# Altium schematic symbol library My Library.SchLib: 51 symbols
Pins are listed as number, name and electrical type; pins without a type are passive.

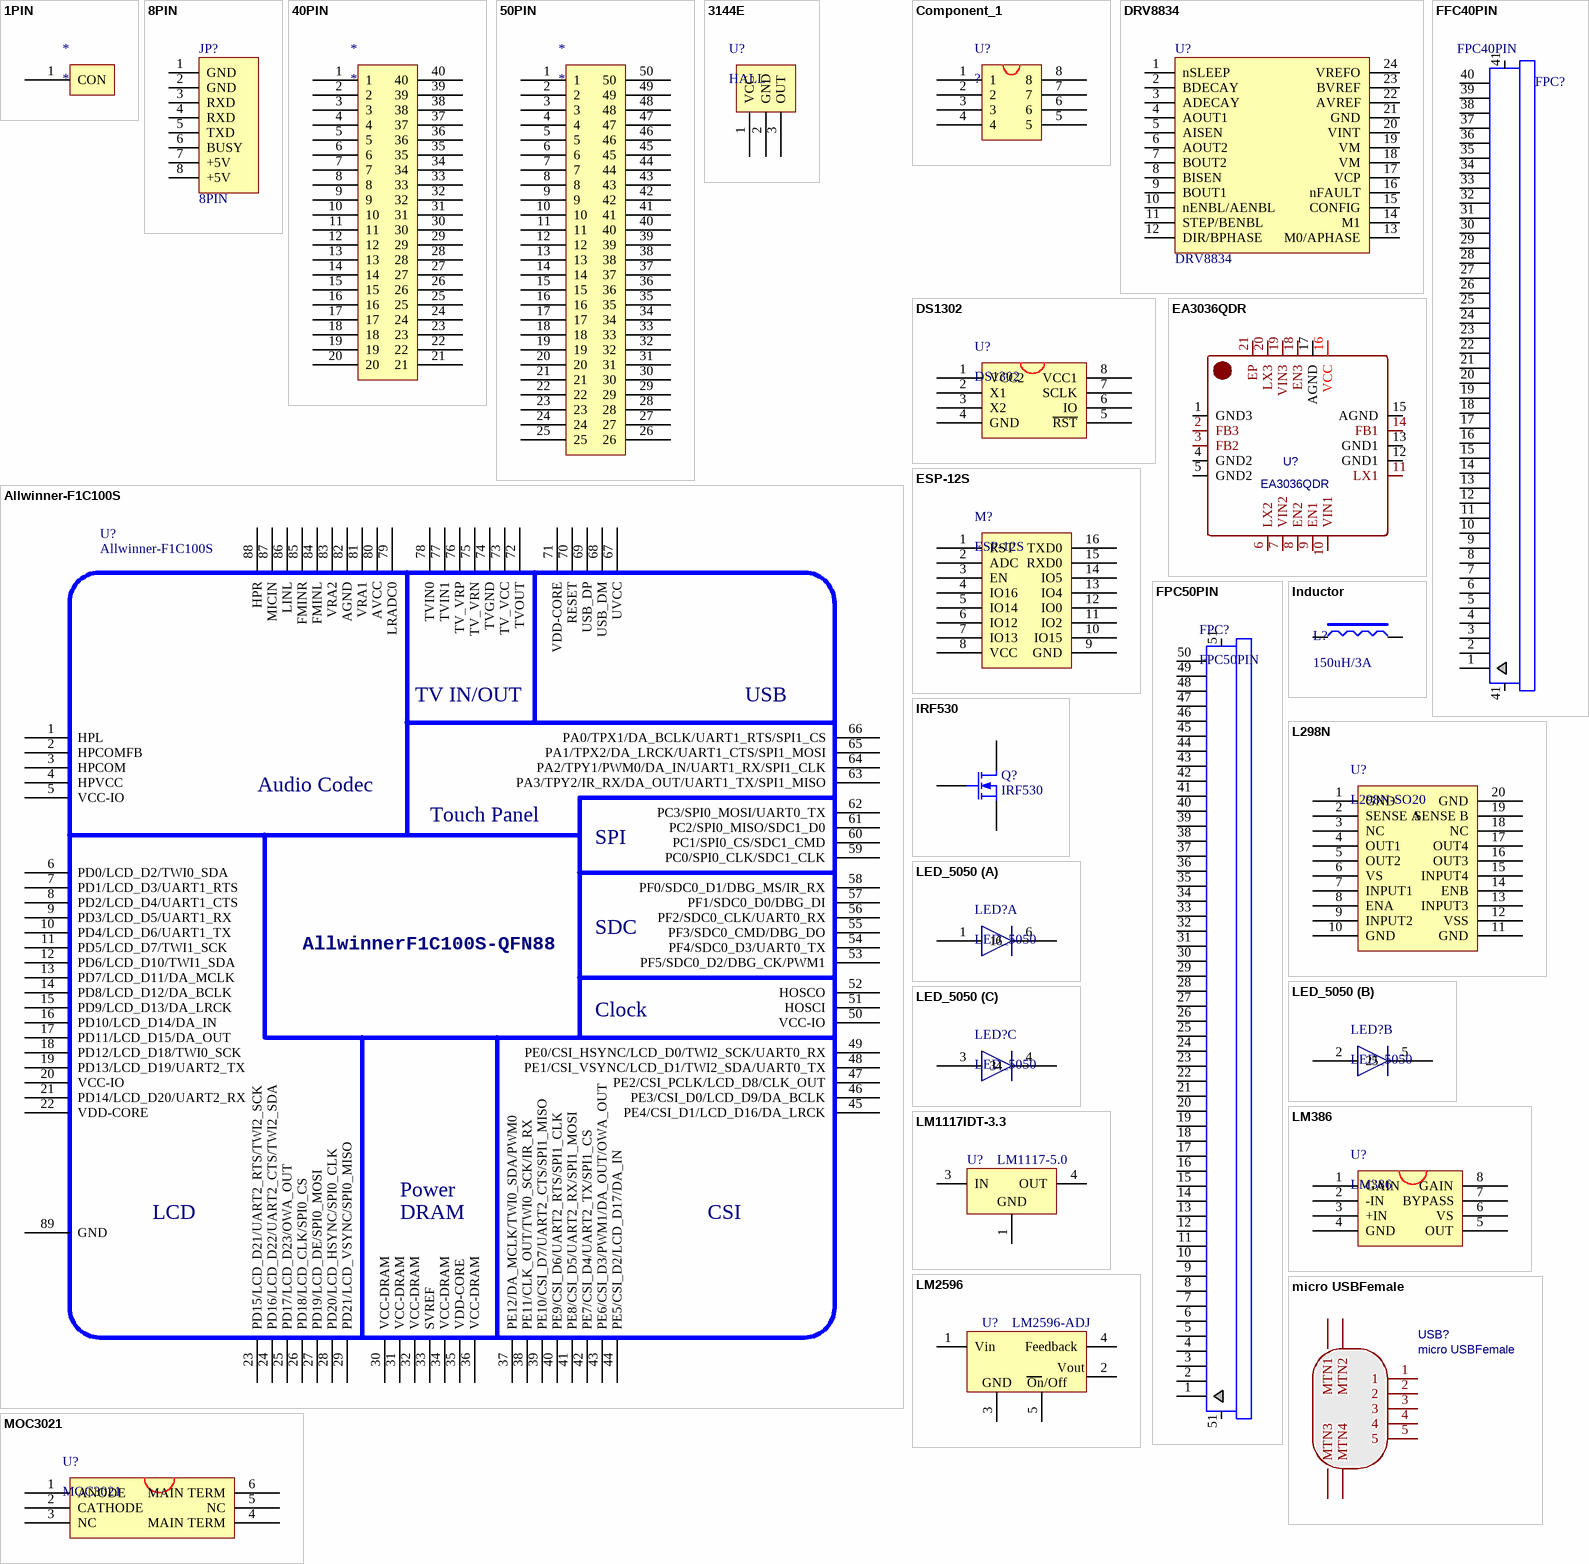
[diagram p0: symbols 1PIN to MOC3021]

## 1PIN
designator *
pins: 1 CON

## 8PIN
designator JP?
footprint LCD8
pins: 1 GND, 2 GND, 3 RXD, 4 RXD, 5 TXD, 6 BUSY, 7 +5V, 8 +5V

## 40PIN
designator *
pins: 1, 2, 3, 4, 5, 6, 7, 8, 9, 10, 11, 12, 13, 14, 15, 16, 17, 18, 19, 20, 21, 22, 23, 24, 25, 26, 27, 28, 29, 30, 31, 32, 33, 34, 35, 36, 37, 38, 39, 40

## 50PIN
designator *
pins: 1, 2, 3, 4, 5, 6, 7, 8, 9, 10, 11, 12, 13, 14, 15, 16, 17, 18, 19, 20, 21, 22, 23, 24, 25, 26, 27, 28, 29, 30, 31, 32, 33, 34, 35, 36, 37, 38, 39, 40, 41, 42, 43, 44, 45, 46, 47, 48, 49, 50

## 3144E
designator U?, comment HALL
footprint BCY-W3
pins: 1 VCC, 2 GND, 3 OUT

## Allwinner-F1C100S
designator U?
footprint QFN88
pins: 1 HPL, 2 HPCOMFB, 3 HPCOM, 4 HPVCC, 5 VCC-IO, 6 PD0/LCD_D2/TWI0_SDA, 7 PD1/LCD_D3/UART1_RTS, 8 PD2/LCD_D4/UART1_CTS, 9 PD3/LCD_D5/UART1_RX, 10 PD4/LCD_D6/UART1_TX, 11 PD5/LCD_D7/TWI1_SCK, 12 PD6/LCD_D10/TWI1_SDA, 13 PD7/LCD_D11/DA_MCLK, 14 PD8/LCD_D12/DA_BCLK, 15 PD9/LCD_D13/DA_LRCK, 16 PD10/LCD_D14/DA_IN, 17 PD11/LCD_D15/DA_OUT, 18 PD12/LCD_D18/TWI0_SCK, 19 PD13/LCD_D19/UART2_TX, 20 VCC-IO, 21 PD14/LCD_D20/UART2_RX, 22 VDD-CORE, 23 PD15/LCD_D21/UART2_RTS/TWI2_SCK, 24 PD16/LCD_D22/UART2_CTS/TWI2_SDA, 25 PD17/LCD_D23/OWA_OUT, 26 PD18/LCD_CLK/SPI0_CS, 27 PD19/LCD_DE/SPI0_MOSI, 28 PD20/LCD_HSYNC/SPI0_CLK, 29 PD21/LCD_VSYNC/SPI0_MISO, 30 VCC-DRAM, 31 VCC-DRAM, 32 VCC-DRAM, 33 SVREF, 34 VCC-DRAM, 35 VDD-CORE, 36 VCC-DRAM, 37 PE12/DA_MCLK/TWI0_SDA/PWM0, 38 PE11/CLK_OUT/TWI0_SCK/IR_RX, 39 PE10/CSI_D7/UART2_CTS/SPI1_MISO, 40 PE9/CSI_D6/UART2_RTS/SPI1_CLK, 41 PE8/CSI_D5/UART2_RX/SPI1_MOSI, 42 PE7/CSI_D4/UART2_TX/SPI1_CS, 43 PE6/CSI_D3/PWM1/DA_OUT/OWA_OUT, 44 PE5/CSI_D2/LCD_D17/DA_IN, 45 PE4/CSI_D1/LCD_D16/DA_LRCK, 46 PE3/CSI_D0/LCD_D9/DA_BCLK, 47 PE2/CSI_PCLK/LCD_D8/CLK_OUT, 48 PE1/CSI_VSYNC/LCD_D1/TWI2_SDA/UART0_TX, 49 PE0/CSI_HSYNC/LCD_D0/TWI2_SCK/UART0_RX, 50 VCC-IO, 51 HOSCI, 52 HOSCO, 53 PF5/SDC0_D2/DBG_CK/PWM1, 54 PF4/SDC0_D3/UART0_TX, 55 PF3/SDC0_CMD/DBG_DO, 56 PF2/SDC0_CLK/UART0_RX, 57 PF1/SDC0_D0/DBG_DI, 58 PF0/SDC0_D1/DBG_MS/IR_RX, 59 PC0/SPI0_CLK/SDC1_CLK, 60 PC1/SPI0_CS/SDC1_CMD, 61 PC2/SPI0_MISO/SDC1_D0, 62 PC3/SPI0_MOSI/UART0_TX, 63 PA3/TPY2/IR_RX/DA_OUT/UART1_TX/SPI1_MISO, 64 PA2/TPY1/PWM0/DA_IN/UART1_RX/SPI1_CLK, 65 PA1/TPX2/DA_LRCK/UART1_CTS/SPI1_MOSI, 66 PA0/TPX1/DA_BCLK/UART1_RTS/SPI1_CS, 67 UVCC, 68 USB_DM, 69 USB_DP, 70 RESET, 71 VDD-CORE, 72 TVOUT, 73 TV_VCC, 74 TVGND, 75 TV_VRN, 76 TV_VRP, 77 TVIN1, 78 TVIN0, 79 LRADC0, 80 AVCC, 81 VRA1, 82 AGND, 83 VRA2, 84 FMINL, 85 FMINR, 86 LINL, 87 MICIN, 88 HPR, 89 GND
text: TV IN/OUT; USB; Audio Codec; Touch Panel; SPI; SDC; AllwinnerF1C100S-QFN88; Clock; Power; LCD; DRAM; CSI

## Component_1
designator U?, comment ?
Unknow
footprint SOP-8
pins: 1, 2, 3, 4, 5, 6, 7, 8

## DRV8834
designator U?
footprint SOIC-24
pins: 1 nSLEEP, 2 BDECAY, 3 ADECAY, 4 AOUT1, 5 AISEN, 6 AOUT2, 7 BOUT2, 8 BISEN, 9 BOUT1, 10 nENBL/AENBL, 11 STEP/BENBL, 12 DIR/BPHASE, 13 M0/APHASE, 14 M1, 15 CONFIG, 16 nFAULT, 17 VCP, 18 VM, 19 VM, 20 VINT, 21 GND, 22 AVREF, 23 BVREF, 24 VREFO

## DS1302
designator U?
footprint SOP-8
pins: 1 VCC2, 2 X1, 3 X2, 4 GND, 5 ~{RST}, 6 IO, 7 SCLK, 8 VCC1

## EA3036QDR
designator U?
BOM_Manufacturer: Everanalog; spicePre: X; BOM_Manufacturer Part: EA3036QDR; BOM_Supplier: LCSC; BOM_Supplier Part: C111587
footprint QFN20P
pins: 1 GND3, 2 FB3, 3 FB2, 4 GND2, 5 GND2, 6 LX2, 7 VIN2, 8 EN2, 9 EN1, 10 VIN1, 11 LX1, 12 GND1, 13 GND1, 14 FB1, 15 AGND, 16 VCC, 17 AGND, 18 EN3, 19 VIN3, 20 LX3, 21 EP

## ESP-12S
designator M?
footprint ESP-12S
pins: 1 RST, 2 ADC, 3 EN, 4 IO16, 5 IO14, 6 IO12, 7 IO13, 8 VCC, 9 GND, 10 IO15, 11 IO2, 12 IO0, 13 IO4, 14 IO5, 15 RXD0, 16 TXD0

## FFC40PIN
designator FPC?, comment FPC40PIN
FFC
footprint FFC-0.5-2H40 (Connector; FH12 Series; 40 Position; 0.5mm Spaced Bottom Contact)
footprint FPC-40PIN
pins: 1, 2, 3, 4, 5, 6, 7, 8, 9, 10, 11, 12, 13, 14, 15, 16, 17, 18, 19, 20, 21, 22, 23, 24, 25, 26, 27, 28, 29, 30, 31, 32, 33, 34, 35, 36, 37, 38, 39, 40, 41, 41

## FPC50PIN
designator FPC?
FPC
footprint FPC-50PIN
pins: 1, 2, 3, 4, 5, 6, 7, 8, 9, 10, 11, 12, 13, 14, 15, 16, 17, 18, 19, 20, 21, 22, 23, 24, 25, 26, 27, 28, 29, 30, 31, 32, 33, 34, 35, 36, 37, 38, 39, 40, 41 31, 42 32, 43 33, 44 34, 45 35, 46 36, 47 37, 48 38, 49 39, 50 40, 51 41, 51 41

## Inductor
designator L?, comment 150uH/3A
Inductor; Code_IEC: 1005; Value: 10mH; Published: 8-Jun-2000; LatestRevisionDate: 29-May-2009; LatestRevisionNote: IPC-7351 Footprint Added.; PackageReference: 0402-A; Publisher: Altium Limited; PackageDescription: Chip Inductor; Code_JEITA: 0402
footprint LDIP-5MM
simulation model INDUCTOR (Inductor)
signal-integrity model Inductor
footprint SMD-12*12
pins: 1, 2

## IRF530
designator Q?
N-Channel MOSFET; Published: 8-Jun-2000; LatestRevisionDate: 17-Jul-2002; LatestRevisionNote: Re-released for DXP Platform.; PackageVersion: 1995/1996; PackageReference: E3; Publisher: Altium Limited
footprint TO-220-3-SC; pin to pad 1>2 2>1
simulation model NMOS (MOSFET-N)
pins: 1 D, 2 G, 3 S

## L298N
designator U?, comment L298N-SO20
footprint PowerSO20
pins: 1 GND, 2 SENSE A, 3 NC, 4 OUT1, 5 OUT2, 6 VS, 7 INPUT1, 8 ENA, 9 INPUT2, 10 GND, 11 GND, 12 VSS, 13 INPUT3, 14 ENB, 15 INPUT4, 16 OUT3, 17 OUT4, 18 NC, 19 SENSE B, 20 GND

## LED_5050
designator LED?
footprint LED_5050
part A pins: 1, 6
part B pins: 2, 5
part C pins: 3, 4

## LM386
designator U?
footprint SOP-8
pins: 1 GAIN, 2 -IN, 3 +IN, 4 GND, 5 OUT, 6 VS, 7 BYPASS, 8 GAIN

## LM1117IDT-3.3
designator U?, comment LM1117-5.0
800mA Low-Dropout Linear Regulator, 3-pin TO-252; PartNumber: LM1117IDT-3.3; Manufacturer: National Semiconductor; PackageTopMarking: NSUZXYTT*LM1117*IDT-3.3; PowerWise: N; CompType: LDO IC; Published: 4-Dec-2008; DatasheetVersion: Apr-2006; PackageVersion: revD, Feb-2009; PackageReference: TD03B; Publisher: Altium Limited; PackageDescription: TO252, Molded, Jedec, 6.8 x 6.10 x 2.30mm Body, 3 Lead, 2.28mm Pitch, Surface Mount; RoHS: N; PinCount: 3; Code_JEDEC: TO-252-AA; ComponentLink1Description: LM1117 Datasheet; ComponentLink1URL: http://www.national.com/ds/LM/LM1117.pdf; ComponentLink2Description: LM1117 Web Page; ComponentLink2URL: http://www.national.com/pf/LM/LM1117.html; ComponentLink3Description: TD03B Package Page; ComponentLink3URL: http://www.national.com/packaging/folders/td03b.html
footprint SOT-223
pins: 1 GND (power), 3 IN (power), 4 OUT (power)

## LM2596
designator U?, comment LM2596-ADJ
footprint TO-263-5
pins: 1 Vin, 2, 3, 4 Feedback, 5
text: Vout; GND; On/Off

## micro USBFemale
designator USB?
BOM_Manufacturer: ValuePro; BOM_Supplier: LCSC; BOM_Manufacturer Part: micro USBFemale; image: //image.lceda.cn/szlcsc/C10418.jpg; spicePre: U; BOM_Supplier Part: C10418
footprint USB_MICRO
pins: 0 MTN4, 0 MTN3, 0 MTN2, 0 MTN1, 1, 2, 3, 4, 5

## MOC3021
designator U?
footprint SOIC-6-2.54
pins: 1 ANODE, 2 CATHODE, 3 NC, 4 MAIN TERM, 5 NC, 6 MAIN TERM

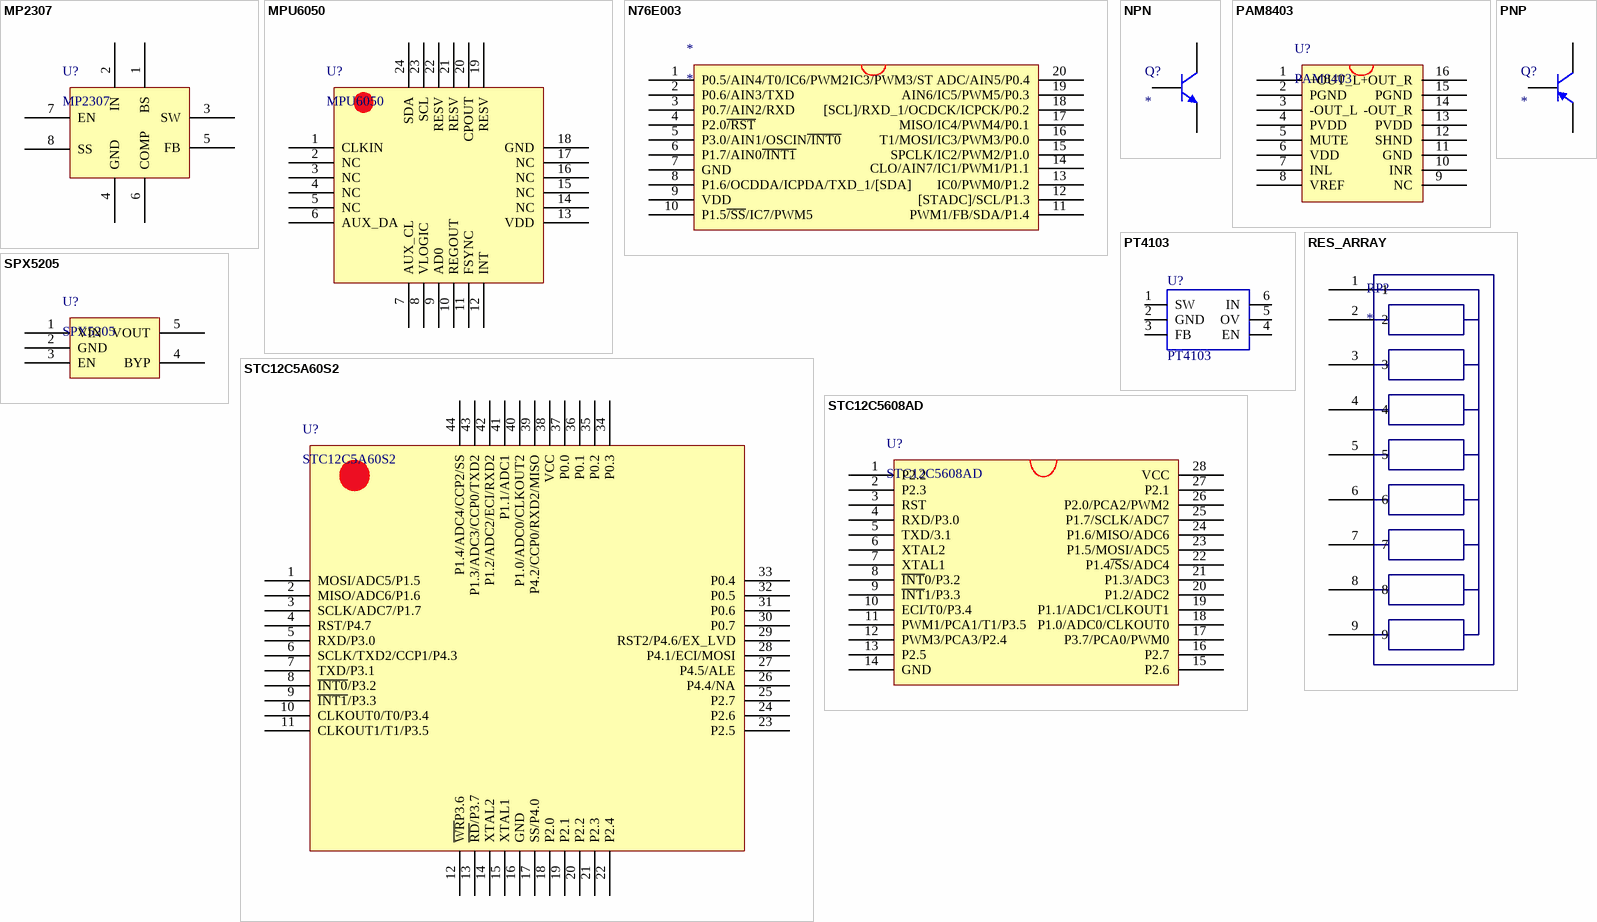
[diagram p1: symbols MP2307 to STC12C5608AD]

## MP2307
designator U?
footprint SOP-8
pins: 1 BS, 2 IN, 3 SW, 4 GND, 5 FB, 6 COMP, 7 EN, 8 SS

## MPU6050
designator U?
footprint QFN4*4*0.9_24PIN
pins: 1 CLKIN, 2 NC, 3 NC, 4 NC, 5 NC, 6 AUX_DA, 7 AUX_CL, 8 VLOGIC, 9 AD0, 10 REGOUT, 11 FSYNC, 12 INT, 13 VDD, 14 NC, 15 NC, 16 NC, 17 NC, 18 GND, 19 RESV, 20 CPOUT, 21 RESV, 22 RESV, 23 SCL, 24 SDA

## N76E003
designator *
footprint TSSOP-20
pins: 1 P0.5/AIN4/T0/IC6/PWM2, 2 P0.6/AIN3/TXD, 3 P0.7/AIN2/RXD, 4 P2.0~{/RST}, 5 P3.0/AIN1/OSCIN~{/INT0}, 6 P1.7/AIN0~{/INT1}, 7 GND, 8 P1.6/OCDDA/ICPDA/TXD_1/[SDA], 9 VDD, 10 P1.5~{/SS}/IC7/PWM5, 11 PWM1/FB/SDA/P1.4, 12 [STADC]/SCL/P1.3, 13 IC0/PWM0/P1.2, 14 CLO/AIN7/IC1/PWM1/P1.1, 15 SPCLK/IC2/PWM2/P1.0, 16 T1/MOSI/IC3/PWM3/P0.0, 17 MISO/IC4/PWM4/P0.1, 18 [SCL]/RXD_1/OCDCK/ICPCK/P0.2, 19 AIN6/IC5/PWM5/P0.3, 20 IC3/PWM3/ST ADC/AIN5/P0.4

## NPN
designator Q?
footprint SOT-23-3
footprint T0-220-3
pins: 1 C, 2 B, 3 E

## PAM8403
designator U?
footprint SOIC-16
pins: 1 +OUT_L, 2 PGND, 3 -OUT_L, 4 PVDD, 5 MUTE, 6 VDD, 7 INL, 8 VREF, 9 NC, 10 INR, 11 GND, 12 SHND, 13 PVDD, 14 -OUT_R, 15 PGND, 16 +OUT_R

## PNP
designator Q?
footprint SOT-23-3
pins: 1 C, 2 B, 3 E

## PT4103
designator U?
footprint SOT-23-6
pins: 1 SW, 2 GND, 3 FB, 4 EN, 5 OV, 6 IN

## RES_ARRAY
designator RP?
RES_ARRAY
pins: 1, 2, 3, 4, 5, 6, 7, 8, 9

## SPX5205
designator U?
VOLTAGE REGULATOR IC
pins: 1 VIN, 2 GND, 3 EN, 4 BYP, 5 VOUT

## STC12C5A60S2
designator U?
footprint LQFP-44
pins: 1 MOSI/ADC5/P1.5, 2 MISO/ADC6/P1.6, 3 SCLK/ADC7/P1.7, 4 RST/P4.7, 5 RXD/P3.0, 6 SCLK/TXD2/CCP1/P4.3, 7 TXD/P3.1, 8 ~{INT0}/P3.2, 9 ~{INT1}/P3.3, 10 CLKOUT0/T0/P3.4, 11 CLKOUT1/T1/P3.5, 12 ~{WR}P3.6, 13 ~{RD}/P3.7, 14 XTAL2, 15 XTAL1, 16 GND, 17 SS/P4.0, 18 P2.0, 19 P2.1, 20 P2.2, 21 P2.3, 22 P2.4, 23 P2.5, 24 P2.6, 25 P2.7, 26 P4.4/NA, 27 P4.5/ALE, 28 P4.1/ECI/MOSI, 29 RST2/P4.6/EX_LVD, 30 P0.7, 31 P0.6, 32 P0.5, 33 P0.4, 34 P0.3, 35 P0.2, 36 P0.1, 37 P0.0, 38 VCC, 39 P4.2/CCP0/RXD2/MISO, 40 P1.0/ADC0/CLKOUT2, 41 P1.1/ADC1, 42 P1.2/ADC2/ECI/RXD2, 43 P1.3/ADC3/CCP0/TXD2, 44 P1.4/ADC4/CCP2/SS

## STC12C5608AD
designator U?
footprint SOIC-28
pins: 1 P2.2, 2 P2.3, 3 RST, 4 RXD/P3.0, 5 TXD/3.1, 6 XTAL2, 7 XTAL1, 8 ~{INT}0/P3.2, 9 ~{INT}1/P3.3, 10 ECI/T0/P3.4, 11 PWM1/PCA1/T1/P3.5, 12 PWM3/PCA3/P2.4, 13 P2.5, 14 GND, 15 P2.6, 16 P2.7, 17 P3.7/PCA0/PWM0, 18 P1.0/ADC0/CLKOUT0, 19 P1.1/ADC1/CLKOUT1, 20 P1.2/ADC2, 21 P1.3/ADC3, 22 P1.4~{/S}S/ADC4, 23 P1.5/MOSI/ADC5, 24 P1.6/MISO/ADC6, 25 P1.7/SCLK/ADC7, 26 P2.0/PCA2/PWM2, 27 P2.1, 28 VCC

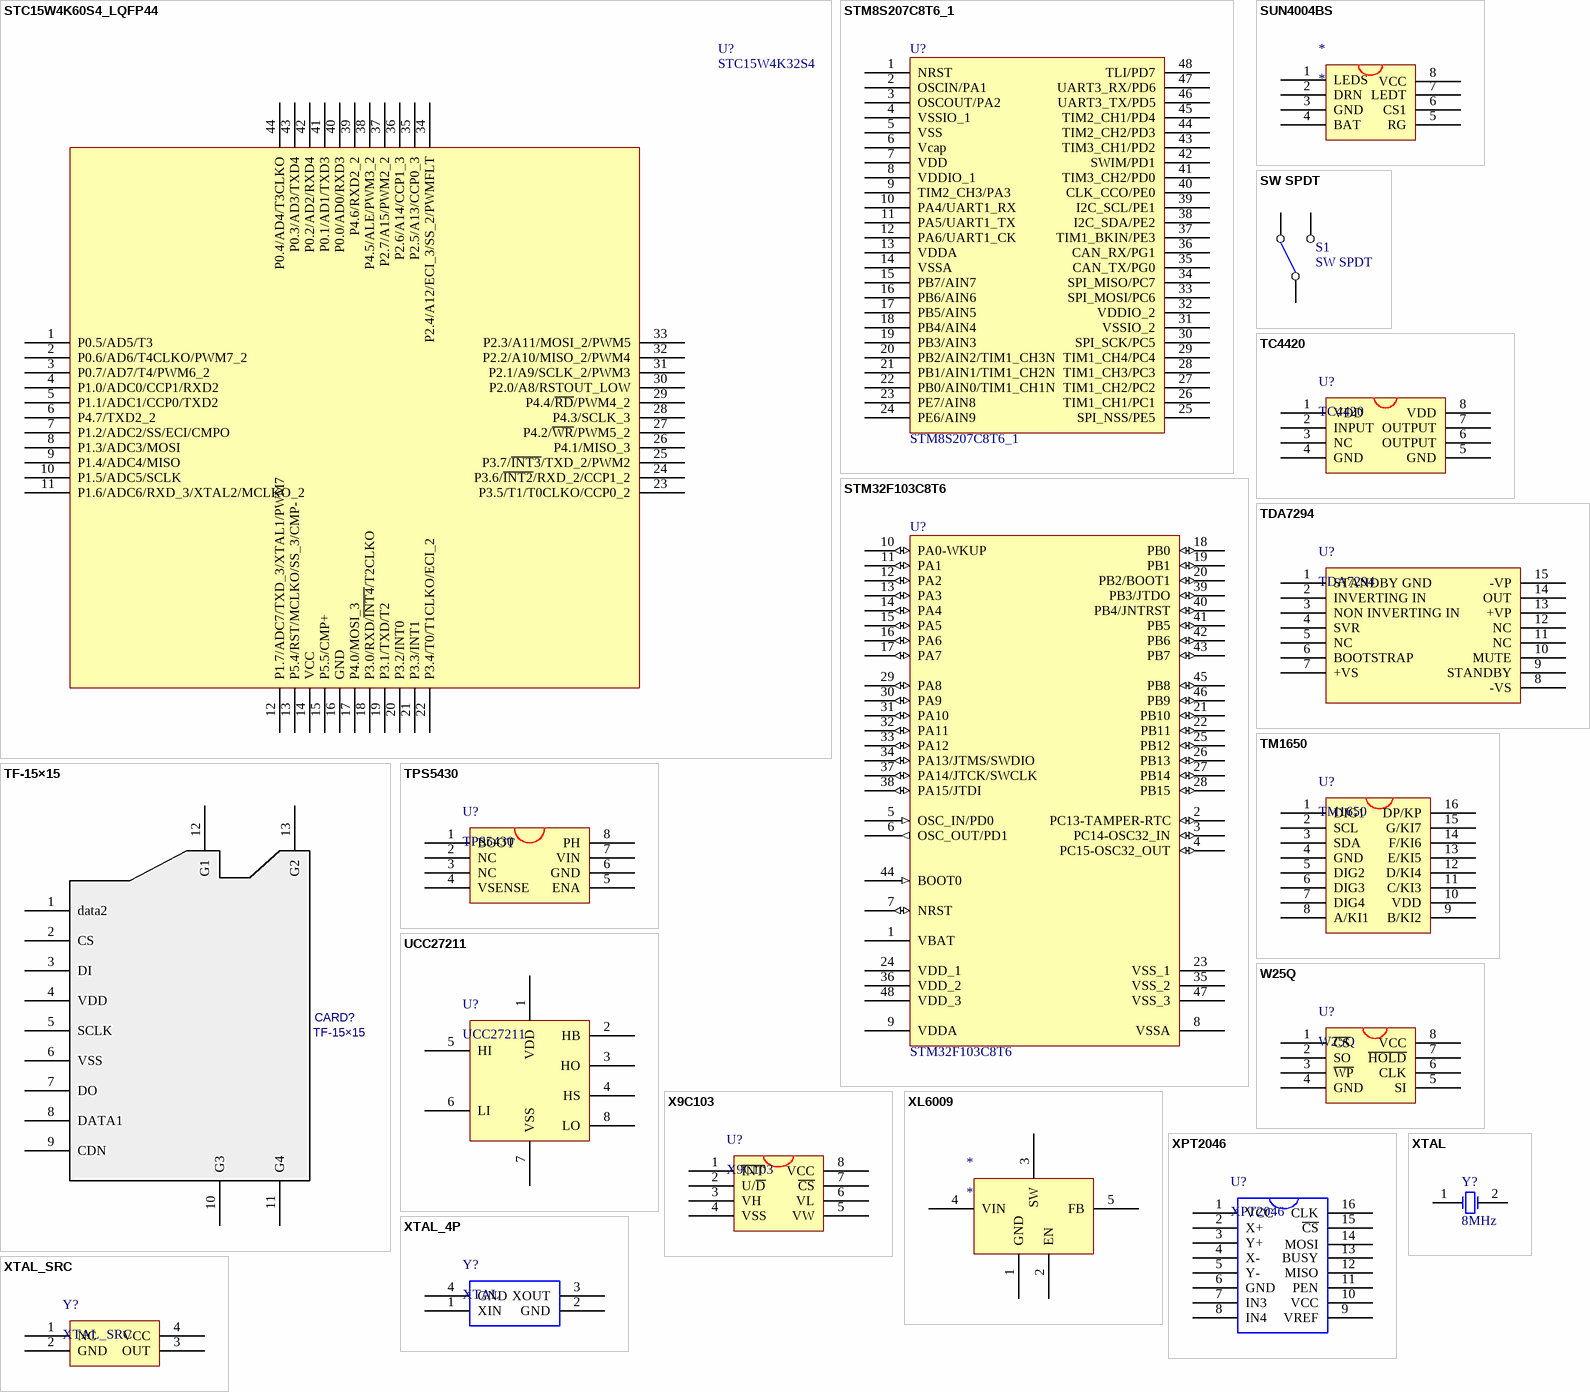
[diagram p2: symbols STC15W4K60S4_LQFP44 to XTAL_SRC]

## STC15W4K60S4_LQFP44
designator U?, comment STC15W4K32S4
MCU
footprint LQFP-44
pins: 1 P0.5/AD5/T3, 2 P0.6/AD6/T4CLKO/PWM7_2, 3 P0.7/AD7/T4/PWM6_2, 4 P1.0/ADC0/CCP1/RXD2, 5 P1.1/ADC1/CCP0/TXD2, 6 P4.7/TXD2_2, 7 P1.2/ADC2/SS/ECI/CMPO, 8 P1.3/ADC3/MOSI, 9 P1.4/ADC4/MISO, 10 P1.5/ADC5/SCLK, 11 P1.6/ADC6/RXD_3/XTAL2/MCLKO_2, 12 P1.7/ADC7/TXD_3/XTAL1/PWM7, 13 P5.4/RST/MCLKO/SS_3/CMP-, 14 VCC, 15 P5.5/CMP+, 16 GND, 17 P4.0/MOSI_3, 18 P3.0/RXD/~{INT4}/T2CLKO, 19 P3.1/TXD/T2, 20 P3.2/INT0, 21 P3.3/INT1, 22 P3.4/T0/T1CLKO/ECI_2, 23 P3.5/T1/T0CLKO/CCP0_2, 24 P3.6/~{INT2}/RXD_2/CCP1_2, 25 P3.7/~{INT3}/TXD_2/PWM2, 26 P4.1/MISO_3, 27 P4.2/~{WR}/PWM5_2, 28 P4.3/SCLK_3, 29 P4.4/~{RD}/PWM4_2, 30 P2.0/A8/RSTOUT_LOW, 31 P2.1/A9/SCLK_2/PWM3, 32 P2.2/A10/MISO_2/PWM4, 33 P2.3/A11/MOSI_2/PWM5, 34 P2.4/A12/ECI_3/SS_2/PWMFLT, 35 P2.5/A13/CCP0_3, 36 P2.6/A14/CCP1_3, 37 P2.7/A15/PWM2_2, 38 P4.5/ALE/PWM3_2, 39 P4.6/RXD2_2, 40 P0.0/AD0/RXD3, 41 P0.1/AD1/TXD3, 42 P0.2/AD2/RXD4, 43 P0.3/AD3/TXD4, 44 P0.4/AD4/T3CLKO

## STM8S207C8T6_1
designator U?
MCU
footprint LQFP48-0.5
pins: 1 NRST, 2 OSCIN/PA1, 3 OSCOUT/PA2, 4 VSSIO_1, 5 VSS, 6 Vcap, 7 VDD, 8 VDDIO_1, 9 TIM2_CH3/PA3, 10 PA4/UART1_RX, 11 PA5/UART1_TX, 12 PA6/UART1_CK, 13 VDDA, 14 VSSA, 15 PB7/AIN7, 16 PB6/AIN6, 17 PB5/AIN5, 18 PB4/AIN4, 19 PB3/AIN3, 20 PB2/AIN2/TIM1_CH3N, 21 PB1/AIN1/TIM1_CH2N, 22 PB0/AIN0/TIM1_CH1N, 23 PE7/AIN8, 24 PE6/AIN9, 25 SPI_NSS/PE5, 26 TIM1_CH1/PC1, 27 TIM1_CH2/PC2, 28 TIM1_CH3/PC3, 29 TIM1_CH4/PC4, 30 SPI_SCK/PC5, 31 VSSIO_2, 32 VDDIO_2, 33 SPI_MOSI/PC6, 34 SPI_MISO/PC7, 35 CAN_TX/PG0, 36 CAN_RX/PG1, 37 TIM1_BKIN/PE3, 38 I2C_SDA/PE2, 39 I2C_SCL/PE1, 40 CLK_CCO/PE0, 41 TIM3_CH2/PD0, 42 SWIM/PD1, 43 TIM3_CH1/PD2, 44 TIM2_CH2/PD3, 45 TIM2_CH1/PD4, 46 UART3_TX/PD5, 47 UART3_RX/PD6, 48 TLI/PD7

## STM32F103C8T6
designator U?
STM32 ARM-based 32-bit MCU with 64 Kbytes Flash, 48-pin LQFP, Industrial Temperature; Published: 30-May-2008; DatasheetVersion: rev6, Mar-2008; PackageVersion: Mar-2008; PackageReference: LQFP48; Publisher: Altium Limited; PackageDescription: 48-Pin Low-Profile Quad Flat Pack, 7 x 7 mm Body, 0.5 mm Pitch (LQFP48); ComponentLink1Description: Manufacturer Link; ComponentLink1URL: www.st.com/stm32; ComponentLink2Description: Datasheet; ComponentLink2URL: http://www.st.com/stonline/products/literature/ds/13587.pdf
footprint LQFP48-0.5
pins: 1 VBAT (power), 2 PC13-TAMPER-RTC (io), 3 PC14-OSC32_IN (io), 4 PC15-OSC32_OUT (io), 5 OSC_IN/PD0 (in), 6 OSC_OUT/PD1 (out), 7 NRST (io), 8 VSSA (power), 9 VDDA (power), 10 PA0-WKUP (io), 11 PA1 (io), 12 PA2 (io), 13 PA3 (io), 14 PA4 (io), 15 PA5 (io), 16 PA6 (io), 17 PA7 (io), 18 PB0 (io), 19 PB1 (io), 20 PB2/BOOT1 (io), 21 PB10 (io), 22 PB11 (io), 23 VSS_1 (power), 24 VDD_1 (power), 25 PB12 (io), 26 PB13 (io), 27 PB14 (io), 28 PB15 (io), 29 PA8 (io), 30 PA9 (io), 31 PA10 (io), 32 PA11 (io), 33 PA12 (io), 34 PA13/JTMS/SWDIO (io), 35 VSS_2 (power), 36 VDD_2 (power), 37 PA14/JTCK/SWCLK (io), 38 PA15/JTDI (io), 39 PB3/JTDO (io), 40 PB4/JNTRST (io), 41 PB5 (io), 42 PB6 (io), 43 PB7 (io), 44 BOOT0 (in), 45 PB8 (io), 46 PB9 (io), 47 VSS_3 (power), 48 VDD_3 (power)

## SUN4004BS
designator *
footprint SOP-8 WITH COOL
pins: 1 LEDS, 2 DRN, 3 GND, 4 BAT, 5 RG, 6 CS1, 7 LEDT, 8 VCC

## SW SPDT
designator S1
footprint SW-2
pins: 1 NC, 2 COMMON, 3 NO

## TC4420
designator U?
footprint SOP-8
pins: 1 VDD, 2 INPUT, 3 NC, 4 GND, 5 GND, 6 OUTPUT, 7 OUTPUT, 8 VDD

## TDA7294
designator U?
pins: 1 STANDBY GND, 2 INVERTING IN, 3 NON INVERTING IN, 4 SVR, 5 NC, 6 BOOTSTRAP, 7 +VS, 8 -VS, 9 STANDBY, 10 MUTE, 11 NC, 12 NC, 13 +VP, 14 OUT, 15 -VP

## TF-15×15
designator CARD?
BOM_Manufacturer: SOFNG; BOM_Supplier: LCSC; BOM_Manufacturer Part: TF-15×15; spicePre: C; BOM_Supplier Part: C111196
footprint SD_MICRO
pins: 1 data2, 2 CS, 3 DI, 4 VDD, 5 SCLK, 6 VSS, 7 DO, 8 DATA1, 9 CDN, 10 G3, 11 G4, 12 G1, 13 G2

## TM1650
designator U?
footprint SOIC-16
pins: 1 DIG1, 2 SCL, 3 SDA, 4 GND, 5 DIG2, 6 DIG3, 7 DIG4, 8 A/KI1, 9 B/KI2, 10 VDD, 11 C/KI3, 12 D/KI4, 13 E/KI5, 14 F/KI6, 15 G/KI7, 16 DP/KP

## TPS5430
designator U?
POWER DOWN IC
footprint SOP-8
pins: 1 BOOT, 2 NC, 3 NC, 4 VSENSE, 5 ENA, 6 GND, 7 VIN, 8 PH

## UCC27211
designator U?
DRIVE IC
footprint SOP-8
pins: 1 VDD, 2 HB, 3 HO, 4 HS, 5 HI, 6 LI, 7 VSS, 8 LO

## W25Q
designator U?
pins: 1 ~{CS}, 2 SO, 3 ~{WP}, 4 GND, 5 SI, 6 CLK, 7 ~{HOLD}, 8 VCC

## X9C103
designator U?
footprint SOP-8
pins: 1 ~{INT}, 2 U/~{D}, 3 VH, 4 VSS, 5 VW, 6 VL, 7 ~{CS}, 8 VCC

## XL6009
designator *
footprint TO-263-5
pins: 1 GND, 2 EN, 3 SW, 4 VIN, 5 FB

## XPT2046
designator U?
footprint SOIC-16-WSON
pins: 1 VCC, 2 X+, 3 Y+, 4 X-, 5 Y-, 6 GND, 7 IN3, 8 IN4, 9 VREF, 10 VCC, 11 PEN, 12 MISO, 13 BUSY, 14 MOSI, 15 ~{CS}, 16 CLK

## XTAL
designator Y?, comment 8MHz
Crystal Oscillator; Published: 8-Jun-2000; LatestRevisionDate: 17-Jul-2002; LatestRevisionNote: Re-released for DXP Platform.; PackageReference: R38; Publisher: Altium Limited
footprint SMD-5032
simulation model XTAL (Spice Subcircuit)
pins: 1 OSC1, 2 OSC2

## XTAL_4P
designator Y?, comment XTAL
footprint SMD_3225
pins: 1 XIN, 2 GND, 3 XOUT, 4 GND

## XTAL_SRC
designator Y?
pins: 1 NC, 2 GND, 3 OUT, 4 VCC